# Altium footprint library rpi-can-hat.PcbLib: 7 footprints
Each footprint in its own frame and in the unit in brackets; x right, y up, seen from the top. Pads: shape width x height; smd on the part's side, far side on the other; paste and mask are expansions set on the pad; w line width, h text height; cw(c..) or ccw(c..) is an arc to the next point about the centre after c.
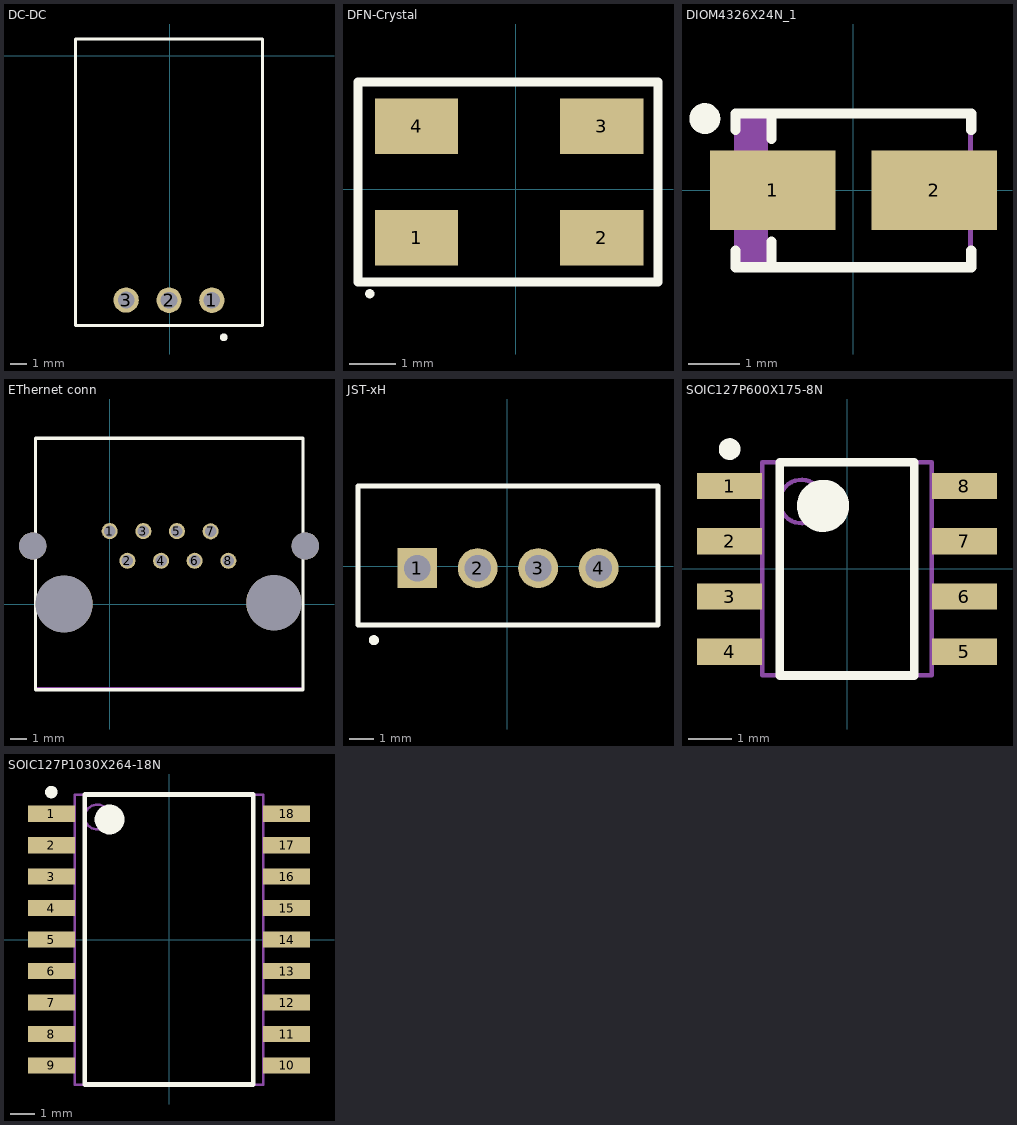
[diagram p0: the footprints below, top view; thin cyan lines are the x and y axes]

## DC-DC [mm]
pads (3):
  round 1.501 hole 1: 1(2.49,-14.5) 2(-0.05,-14.5)
  round 1.5 hole 1: 3(-2.59,-14.49)
Top Overlay:
  circle w0.254: c3.2,-16.7 r0.1
  lines w0.2: -5.6,-16 -5.6,1 5.5,1 5.5,-16 -5.6,-16
Mechanical 29:
  lines w0.1: -5.6,-16 -1.975,-16 3.7,-16 5.5,-16 5.5,-10.4 5.5,-3.5 5.5,1 -5.6,1 -5.6,-16
  text "'.Designator'" at -4.3,-3.3 h0.7
3D body: height 7.6, standoff 0, extent -5.6,-15.98 5.49,0.96

## DFN-Crystal [mm] "DFN, 4-Leads, Body 3.20x5.00mm, Pitch 4.00mm, IPC Medium Density"
height 1.1
pads (4):
  rect 1.8x1.2 smd: 1(-2.14,-1.048) 2(1.86,-1.048) 3(1.86,1.352) 4(-2.14,1.352)
Top Overlay:
  circle w0.1: c-3.15,-2.261 r0.05
  lines w0.2: -3.404,-2.007 3.073,-2.007 3.073,2.311 -3.404,2.311 -3.404,-2.007
Mechanical 29:
  lines w0.1: -3.404,-2.007 3.073,-2.007 3.073,2.311 -3.404,2.311 -3.404,-2.007
  text "'.Designator'" at -2.083,-0.102 h1
3D body "User Library-ABM3B.STEP": height 1.1, standoff 0, extent -2.66,-1.43 2.34,1.77

## DIOM4326X24N_1 [mm] "Molded Diode, 2-Leads, Body 4.31x2.60mm, IPC Medium Density"
height 2.41
pads (2):
  rect 2.45x1.55 smd: 1(-1.575,0) 2(1.575,0)
Top Overlay:
  circle w0.3: c-2.9,1.4 r0.152
  lines w0.2: -2.3,-1.175 -2.3,-1.5 2.3,-1.5 2.3,-1.175 ; -2.3,1.175 -2.3,1.5 2.3,1.5 2.3,1.175 ; -1.6,-1.5 -1.6,-1 ; -1.6,1 -1.6,1.5
Mechanical 29:
  rectangle: -2.285,-1.46 -1.67,1.46
  lines w0.1: -2.285,-1.46 2.285,-1.46 2.285,1.46 -2.285,1.46 -2.285,-1.46
  text ".Designator" at -1.1,-0.4 h0.9
3D body "DIOM4326X24N_1.step": height 2.41, standoff 0, extent -2.505,-1.46 2.505,1.46

## EThernet conn [mm]
pads (12):
  round 0.97 hole 0.7: 1(0,4.41) 2(1.07,2.62) 3(2.03,4.41) 4(3.1,2.62) 5(4.06,4.41) 6(5.13,2.62) 7(6.09,4.4) 8(7.16,2.62)
  round 1.65 hole 1.65 unplated: ""(-4.65,3.51) ""(11.81,3.51)
  round 3.43 hole 3.43 unplated: ""(-2.75,0.01)
  round 3.33 hole 3.33 unplated: ""(9.91,0.09)
Top Overlay:
  lines w0.2: -4.48,-5.17 -4.48,10.01 11.67,10.01 11.67,-5.17 11.13,-5.17 -4.48,-5.17
Mechanical 29:
  lines w0.1: -4.49,-5.05 11.66,-5.05 11.66,9.97 11.61,10.02 -4.49,10.02 -4.49,-5.05
  text "'.Designator'" at -1.41,-3.47 h1
3D body "446200001.stp": height 13.21, standoff -2.79, extent -4.325,-5.015 11.56,10.095

## JST-xH [mm]
pads (4):
  rect 1.65x1.65 / inner round 1.65 / far side rect 1.65x1.65 hole 1.1: 1(-3.716,-0.078)
  round 1.65 hole 1.1: 2(-1.216,-0.078) 3(1.284,-0.078) 4(3.784,-0.078)
Top Overlay:
  circle w0.254: c-5.51,-3.06 r0.081
  lines w0.2: -6.166,-2.428 -3.716,-2.428 6.234,-2.428 6.234,3.322 -6.166,3.322 -6.166,-2.428
Mechanical 15:
  lines w0.1: -6.166,3.322 6.234,3.322 6.234,-2.428
Mechanical 29:
  lines w0.1: -6.16,-2.41 -6.15,-2.42 6.23,-2.42 6.24,-2.41 6.24,3.29 6.21,3.32 -6.15,3.32 -6.16,3.31 -6.16,-2.41
  text "'.Designator'" at -5.26,0.79 h2
3D body "SW3dPS-jst-b4b-xh-a-1.STEP": height 7, standoff -3.4, extent -6.175,-2.4 6.225,3.35

## SOIC127P600X175-8N [mm] "SOIC, 8-Leads, Body 4.90x3.90mm, Pitch 1.27mm, IPC Medium Density"
height 1.75
pads (8):
  rect 1.5x0.6 smd: 1(-2.7,1.905) 2(-2.7,0.635) 3(-2.7,-0.635) 4(-2.7,-1.905) 5(2.7,-1.905) 6(2.7,-0.635) 7(2.7,0.635) 8(2.7,1.905)
Top Overlay:
  circle w0.6: c-0.55,1.45 r0.3
  circle w0.25: c-2.7,2.755 r0.125
  lines w0.2: -1.55,-2.45 1.55,-2.45 1.55,2.45 -1.55,2.45 -1.55,-2.45
Mechanical 29:
  circle w0.1: c-1.05,1.55 r0.5
  lines w0.1: -1.95,-2.45 1.95,-2.45 1.95,2.45 -1.95,2.45 -1.95,-2.45
  text "'.Designator'" at 0.475,-2.15 h1.2
3D body "SOIC127P600X175-8N.step": height 1.75, standoff 0, extent -3,-2.45 3,2.45

## SOIC127P1030X264-18N [mm] "SOIC, 18-Leads, Body 11.53x7.49mm, Pitch 1.27mm, IPC Medium Density"
height 2.64
pads (18):
  rect 1.9x0.65 smd: 1(-4.75,5.08) 2(-4.75,3.81) 3(-4.75,2.54) 4(-4.75,1.27) 5(-4.75,0) 6(-4.75,-1.27) 7(-4.75,-2.54) 8(-4.75,-3.81) 9(-4.75,-5.08) 10(4.75,-5.08) 11(4.75,-3.81) 12(4.75,-2.54) 13(4.75,-1.27) 14(4.75,0) 15(4.75,1.27) 16(4.75,2.54) 17(4.75,3.81) 18(4.75,5.08)
Top Overlay:
  circle w0.25: c-4.75,5.955 r0.125
  circle w0.6: c-2.4,4.85 r0.3
  lines w0.2: -3.4,-5.85 -3.4,5.85 3.4,5.85 3.4,-5.85 -3.4,-5.85
Mechanical 29:
  circle w0.1: c-2.9,4.95 r0.5
  lines w0.1: -3.8,-5.85 -3.8,5.85 3.8,5.85 3.8,-5.85 -3.8,-5.85
  text "'.Designator'" at 1.035,-4.81 h2
3D body "SOIC127P1030X264-18N.step": height 2.64, standoff 0, extent -5.17,-5.85 5.17,5.85